# EAGLE library part COPERNICUS (library trimble)
GPS Module
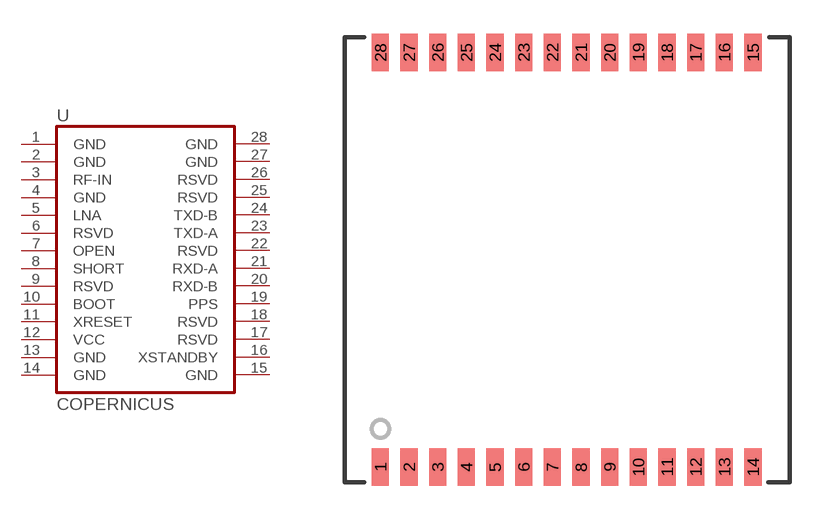
[diagram p0: symbol with the pads of COPERNICUS; footprint COPERNICUS]

Designator prefix U

## COPERNICUS  [COPERNICUS]
1  GND  pwr
2  GND  pwr
3  RF-IN  in
4  GND  pwr
5  LNA  out
6  RSVD
7  OPEN  in
8  SHORT  in
9  RSVD  in
10  BOOT  in
11  XRESET  in
12  VCC  pwr
13  GND  pwr
14  GND  pwr
15  GND  pwr
16  XSTANDBY  in
17  RSVD
18  RSVD
19  PPS  out
20  RXD-B  in
21  RXD-A  in
22  RSVD
23  TXD-A  out
24  TXD-B  out
25  RSVD
26  RSVD
27  GND  pwr
28  GND  pwr

## Footprint COPERNICUS (pad centres in mm)
smd 0.762 x 1.651: 1 -8.255,-9.195; 2 -6.985,-9.195; 3 -5.715,-9.195; 4 -4.445,-9.195; 5 -3.175,-9.195; 6 -1.905,-9.195; 7 -0.635,-9.195; 8 0.635,-9.195; 9 1.905,-9.195; 10 3.175,-9.195; 11 4.445,-9.195; 12 5.715,-9.195; 13 6.985,-9.195; 14 8.255,-9.195; 15 8.255,9.195; 16 6.985,9.195; 17 5.715,9.195; 18 4.445,9.195; 19 3.175,9.195; 20 1.905,9.195; 21 0.635,9.195; 22 -0.635,9.195; 23 -1.905,9.195; 24 -3.175,9.195; 25 -4.445,9.195; 26 -5.715,9.195; 27 -6.985,9.195; 28 -8.255,9.195